# EAGLE library part LT6000 (library isystems)
50KHz, Rail-to-Rail Output Op Amp
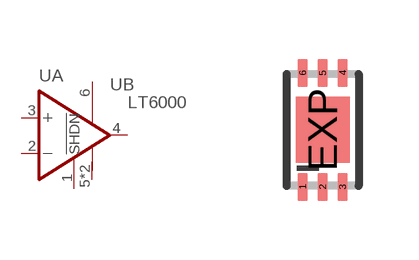
[diagram p18: symbol with the pads of DFN6-2X3; footprint DFN6-2X3]

Designator prefix U; gates A=OPAMP-SHDN B=V+-

## LT6000  [DFN6-2X3]
1  A:!SHDN
2  A:-IN  in
3  A:+IN  in
4  A:OUT  out
5  B:V-  pwr
6  B:V+  pwr
EXP  B:V-  pwr

## Footprint DFN6-2X3 (pad centres in mm)
DCB Package 6-Lead Plastic DFN (2mm × 3mm) Source: http://www.linear.com/pc/downloadDocument.do?navId=H0,C1,C1003,C1042,C1032,C1063,P26952,D16357
smd 0.25 x 0.7: 1 -0.5,-1.425; 2 0,-1.425; 3 0.5,-1.425; 4 0.5,1.425; 5 0,1.425; 6 -0.5,1.425
smd 1.35 x 1.65: EXP 0,0